# EAGLE library part LTC6992CS6-3TRMPBF (library IntegratedLib)
Voltage-Controlled Pulse Width Modulator (PWM)
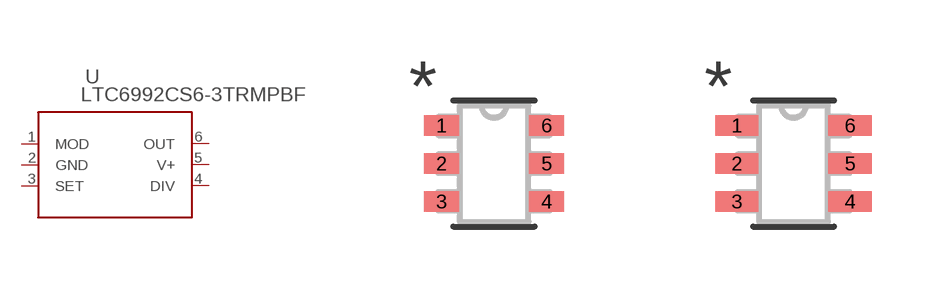
[diagram p54: symbol with the pads of TSOT-23_S6_LIT; footprints TSOT-23_S6_LIT, TSOT-23_S6_LIT-M]

Designator prefix U

## LTC6992CS6-3TRMPBF (COPYRIGHT: Copyright (C) 2021 Ultra Librarian. All rights reserved.; DIGI-KEY_PART_NUMBER_1: LTC6992CS6-3#TRMPBFCT-ND; DIGI-KEY_PART_NUMBER_2: LTC6992CS6-3#TRMPBFDKR-ND; DIGI-KEY_PART_NUMBER_3: LTC6992CS6-3#TRMPBFTR-ND; MANUFACTURER_PART_NUMBER: LTC6992CS6-3#TRMPBF; MFR_NAME: Analog Devices / Linear Technology)  [TSOT-23_S6_LIT]
1  MOD  in
2  GND  pwr
3  SET  in
4  DIV  in
5  V+  pwr
6  OUT  out

## LTC6992CS6-3TRMPBFTSOT-23_S6_LIT-M (COPYRIGHT: Copyright (C) 2021 Ultra Librarian. All rights reserved.; DIGI-KEY_PART_NUMBER_1: LTC6992CS6-3#TRMPBFCT-ND; DIGI-KEY_PART_NUMBER_2: LTC6992CS6-3#TRMPBFDKR-ND; DIGI-KEY_PART_NUMBER_3: LTC6992CS6-3#TRMPBFTR-ND; MANUFACTURER_PART_NUMBER: LTC6992CS6-3#TRMPBF; MFR_NAME: Analog Devices / Linear Technology)  [TSOT-23_S6_LIT-M]
Pads as for TSOT-23_S6_LIT

## LTC6992CS6-3TRMPBFTSOT-23_S6_LIT-L (FABRICANTE: ANALOG; PARTNUMBER: LTC6992; TIPO: CIRCUITO INTEGRADO)  [TSOT-23_S6_LIT-L]
Pads as for TSOT-23_S6_LIT

## Footprint TSOT-23_S6_LIT (pad centres in mm)
smd 0.876 x 0.508: 1 -1.314,0.95; 2 -1.314,0; 3 -1.314,-0.95; 4 1.314,-0.95; 5 1.314,0; 6 1.314,0.95

## Footprint TSOT-23_S6_LIT-M (pad centres in mm)
smd 1.079 x 0.508: 1 -1.416,0.95; 2 -1.416,0; 3 -1.416,-0.95; 4 1.416,-0.95; 5 1.416,0; 6 1.416,0.95

## Footprint TSOT-23_S6_LIT-L (pad centres in mm)
smd 0.673 x 0.457: 1 -1.213,0.95; 2 -1.213,0; 3 -1.213,-0.95; 4 1.213,-0.95; 5 1.213,0; 6 1.213,0.95